# Altium schematic symbol library MAX11624EEG+-ND.SchLib: 1 symbol
Pins are listed as number, name and electrical type; pins without a type are passive.

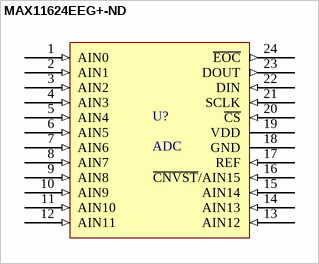
[diagram p0: symbol MAX11624EEG+-ND]

## MAX11624EEG+-ND
designator U?, comment ADC
GLOVE, POLYAMIDE, L/FREE, PU, SIZE 6 - More Details
footprint QSOP24
pins: 1 AIN0 (in), 2 AIN1 (in), 3 AIN2 (in), 4 AIN3 (in), 5 AIN4 (in), 6 AIN5 (in), 7 AIN6 (in), 8 AIN7 (in), 9 AIN8 (in), 10 AIN9 (in), 11 AIN10 (in), 12 AIN11 (in), 13 AIN12 (in), 14 AIN13 (in), 15 AIN14 (in), 16 ~{CNVST}/AIN15 (in) "Active-Low Conversion Start Input/Analog Input 15", 17 REF (in), 18 GND (power), 19 VDD (power), 20 ~{CS} (in), 21 SCLK (in) "Serial Clock Input. Clocks data in and out of the serial interface.", 22 DIN (in) "Serial Data Input. DIN data is latched into the serial interface on the rising edge of SCLK.", 23 DOUT (out) "Serial Data Output. Data is clocked out on the falling edge of SCLK. High impedance when nCS is connected to Vdd.", 24 ~{EOC} (out) "End of Conversion Output. Data is valid after nEOC pulls low."